# EAGLE library part FPC_8 (library Custom_Library)
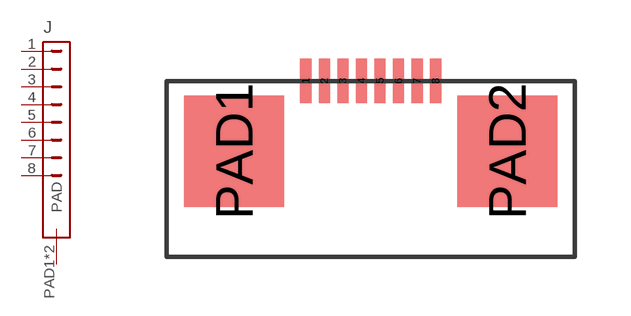
[diagram p31: symbol with the pads of FPC_8; footprint FPC_8]

Designator prefix J

## FPC_8  [FPC_8]
1  1  pas
2  2  pas
3  3  pas
4  4  pas
5  5  pas
6  6  pas
7  7  pas
8  8  pas
PAD1  PAD
PAD2  PAD

## Footprint FPC_8 (pad centres in mm)
smd 0.3 x 1.2: 1 -1.75,-0.6; 2 -1.25,-0.6; 3 -0.75,-0.6; 4 -0.25,-0.6; 5 0.25,-0.6; 6 0.75,-0.6; 7 1.25,-0.6; 8 1.75,-0.6
smd 2.7 x 3: PAD1 -3.68,-2.5; PAD2 3.68,-2.5